# EAGLE library part PADBANK17 (library WiFiPicoDMX)
Free GPIO SMD pad bank
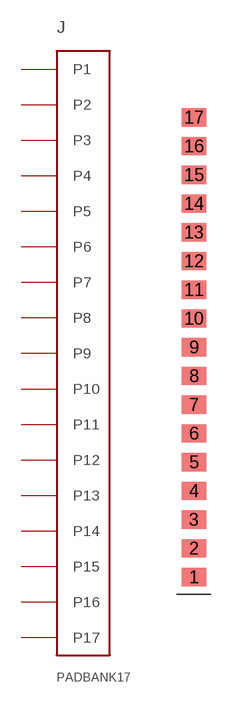
[diagram p2: symbol with the pads of PADBANK17; footprint PADBANK17]

Designator prefix J

## PADBANK17  [PADBANK17]
1  P1  pas
2  P2  pas
3  P3  pas
4  P4  pas
5  P5  pas
6  P6  pas
7  P7  pas
8  P8  pas
9  P9  pas
10  P10  pas
11  P11  pas
12  P12  pas
13  P13  pas
14  P14  pas
15  P15  pas
16  P16  pas
17  P17  pas

## Footprint PADBANK17 (pad centres in mm)
smd 2.2 x 1.6: 1 0,-20.32; 2 0,-17.78; 3 0,-15.24; 4 0,-12.7; 5 0,-10.16; 6 0,-7.62; 7 0,-5.08; 8 0,-2.54; 9 0,0; 10 0,2.54; 11 0,5.08; 12 0,7.62; 13 0,10.16; 14 0,12.7; 15 0,15.24; 16 0,17.78; 17 0,20.32